# Altium schematic symbol library Actuator_Base_Board.SchLib: 16 symbols
Pins are listed as number, name and electrical type; pins without a type are passive.

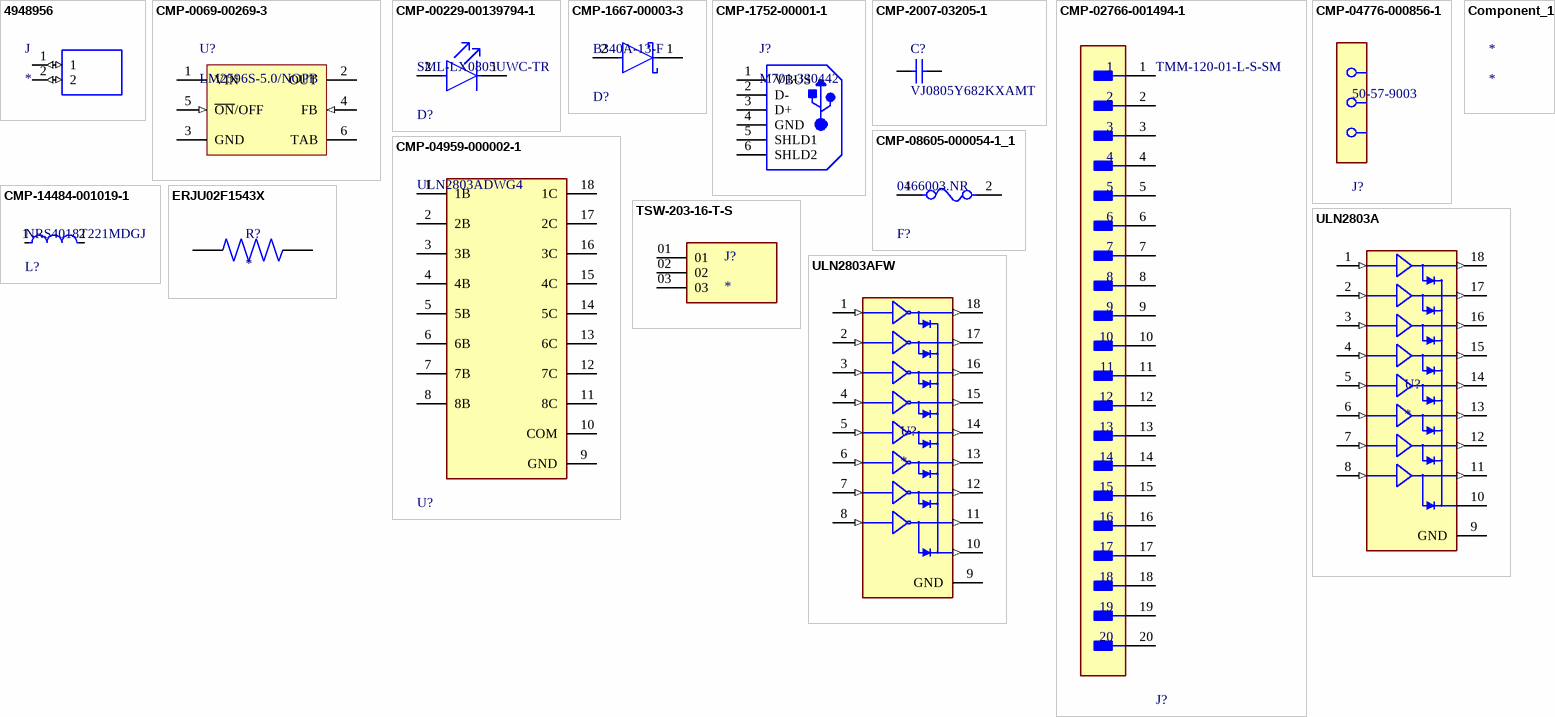
[diagram p0: symbols 4948956 to ULN2803AFW]

## 4948956
designator J
5.08mm Pitch Straight PCB Terminal Block with Screw Term.; Through Hole; 2 Way; MP: 4948956; MF: RS Pro; Value: *; Package: None; SnapEDA_Link: https://www.snapeda.com/parts/4948956/RS%20Pro/view-part/1278850/?ref=snap; Price: None; Availability: Unavailable
footprint SHDR2W100P0X500_1X2_1000X750X1
pins: 1 (io), 2 (io)

## CMP-0069-00269-3
designator U?, comment LM2596S-5.0/NOPB
SIMPLE SWITCHER® Power Converter 150 KHz 3A Step-Down Voltage Regulator, 5-pin TO-263, Pb-Free; Manufacturer: Texas Instruments; PowerWise: N; PackageTopMarking: NSUZXYTTE#*LM2596S*-5.0 P+; ComponentLink1URL: http://www.ti.com/general/docs/lit/getliterature.tsp?genericPartNumber=LM2596&fileType=pdf; PackageDescription: TO-263, Molded, .400 x .390 x .180in, 5 Lead, .067in Pitch, Surface Mount; RoHS: Y; PinCount: 5; Code_JEDEC: MO-169-AB; ComponentLink1Description: Datasheet URL; PackageReference: KTT0005B; CompType: Switcher
footprint KTT0005B_N (DPAK, 5-Leads, Body 10.65x9.65mm, Pitch 1.7mm, IPC Medium Density)
footprint KTT0005B_M (DPAK, 5-Leads, Body 10.65x9.65mm, Pitch 1.7mm, IPC Low Density)
footprint KTT0005B_L (DPAK, 5-Leads, Body 10.65x9.65mm, Pitch 1.7mm, IPC High Density)
pins: 1 VIN (power), 2 OUT (power), 3 GND (power), 4 FB (in), 5 ~{ON}/OFF (in), 6 TAB (power)

## CMP-00229-00139794-1
designator D?, comment SML-LX0805UWC-TR
SML-LX0805UWC-TR White LED, 0805 Diffused, Rectangle Lens SMD package | Lumex SML-LX0805UWC-TR; NexarPartId: 139794; Approvals: CSA, UL; Lens Color: Clear, Yellow; Luminous Intensity: 150mcd; Power Rating: 120mW; Forward Current: 20mA; Forward Voltage: 3.5V; Number of LEDs: 1; Viewing Angle: 120°; RoHS: Compliant; Case/Package: 0805; Illumination Color: White; Min Operating Temperature: -40°C; Mount: Surface Mount; Max Operating Temperature: 85°C
footprint FP-SML-LX0805UWC-TR-MFG
pins: 1 C, 2 A

## CMP-1667-00003-3
designator D?, comment B340A-13-F
DIODE SCHOTTKY 40V 3A SMA; Max Forward Surge Current (Ifsm): 80A; Forward Voltage: 500mV; Polarity: Standard; Max Reverse Current: 500uA; Capacitance: 250pF; Element Configuration: Single; Mount: Surface Mount; Output Current: 3A; Radiation Hardening: No; Width: 2.92mm; Current Rating: 3A; Termination: SMD/SMT; Voltage: 40V; Series: -; Max Operating Temperature: 125°C; Current: 3A; Max Repetitive Reverse Voltage (Vrrm): 40V; Min Operating Temperature: -55°C; REACH SVHC: No SVHC; Number of Pins: 2; Average Rectified Current: 3A; Contact Plating: Tin; RoHS Compliant: Yes; Max Reverse Voltage (DC): 40V; Packaging: Tape and Reel; Height: 2.3mm; Length: 4.6mm; Case/Package: SMA; Weight: 0.002258oz; Peak Non-Repetitive Surge Current: 80A; Package Quantity: 5000; Lead Free: Lead Free; Forward Current: 3A; Voltage Rating (DC): 40V
footprint FP-SMA-MFG
pins: 1 C, 2 A

## CMP-1752-00001-1
designator J?, comment M701-330442
Single USB 2.0, Receptacle Connecter, B Type, 4 Position Through Hole, -55 to 85 degC, RoHS, Tray; DatasheetVersion: Oct-15; PackageDescription: USB Connecter, 4 Position Through Hole, Length 12.04 mm, Height 16.25 mm, Tail Length 3.1 mm; PackageReference: M701-330442; ComponentLink1Description: Datasheet; ComponentLink1URL: https://cdn.harwin.com/pdfs/M701-330442.pdf
footprint HRWN-M701-330442_V (USB, 4-Leads, Body 12.04x10.6mm, Pitch 2.5mm)
pins: 1 VBUS, 2 D-, 3 D+, 4 GND, 5 SHLD1, 6 SHLD2

## CMP-2007-03205-1
designator C?, comment VJ0805Y682KXAMT
Manufacturer: Vitramon; Part Number: VJ0805Y682KXAMT
footprint CAPC2013X145X48NL20T23 (Chip Capacitor, 2-Leads, Body 2.00x1.25mm, IPC Medium Density)
footprint CAPC2013X145X48LL20T23 (Chip Capacitor, 2-Leads, Body 2.00x1.25mm, IPC High Density)
footprint CAPC2013X145X48ML20T23 (Chip Capacitor, 2-Leads, Body 2.00x1.25mm, IPC Low Density)
pins: 1, 2
1 alternate drawing of the same symbol

## CMP-02766-001494-1
designator J?, comment TMM-120-01-L-S-SM
2MM TERMINAL STRIP; Connector Type: Header; Gender: Male; Number of Positions: 20; Contact Type: Male Pin; Min Operating Temperature: -55°C; Max Operating Temperature: 125°C; Flammability Rating: UL94 V-0; REACH SVHC: No SVHC; Lead Free: Lead Free; Fastening Type: Pull; Mount: Surface Mount; Contact Plating: Gold; Contact Finish - Mating: GOLD; Insulation Material: Polymer; Number of Contacts: 20; Insulation Color: Black; Contact Shape: Square; Termination: Solder; Number of Rows: 1; Series: TMM; Packaging: Rail/Tube; Contact Material: Bronze
footprint FP-TMM-120-01-L-S-SM-MFG
pins: 1, 2, 3, 4, 5, 6, 7, 8, 9, 10, 11, 12, 13, 14, 15, 16, 17, 18, 19, 20

## CMP-04776-000856-1
designator J?, comment 50-57-9003
CONN RCPT HSG 3POS 2.54MM; Glow Wire Compliant: Non-compliant; Number of Contacts: 3; Gender: Female; Body Material: PBT; Connector Type: Receptacle; Approvals: UL; Voltage Rating: 250V; Current Rating: 3A; Mount: Free Hanging; Min Operating Temperature: -40°C; Lead Free: Lead Free; Packaging: Bulk; Flammability Rating: UL94 V-0; Number of Rows: 1; Pitch: 2.54mm; Number of Positions: 3; Color: Black; Contact Type: Female Socket; Max Operating Temperature: 105°C; Contact Plating: Tin; RoHS Compliant: Yes; Contact Gender: Female; Housing Material: Polyester; Package Quantity: 500; Termination: Crimp; Housing Color: Black; Width: 2.51mm; Depth: 15.24mm; Material: Polyester; Series: C-Grid® SL™ 70066; Length: 7.62mm; Orientation: Straight
footprint FP-50-57-9003-MFG

## CMP-04959-000002-1
designator U?, comment ULN2803ADWG4
TRANS 8NPN DARL 50V 0.5A 18SO; Max Collector Current: 500mA; Number of Drivers: 8; Collector Emitter Saturation Voltage: 1.1V; Polarity: NPN; Width: 7.52mm; Radiation Hardening: No; Mount: Surface Mount; Collector-emitter Voltage-Max: 50V; Weight: 0.007408oz; RoHS Compliant: Yes; Number of Pins: 18; Height: 2.35mm; Length: 11.62mm; Series: ULN2803A; Collector Emitter Breakdown Voltage: 50V; Max Operating Temperature: 85°C; Min Operating Temperature: -40°C; Emitter Base Voltage (VEBO): 50V; Lead Free: Lead Free; Packaging: Rail/Tube; Collector Emitter Voltage (VCEO): 50V; Number of Elements: 8; Case/Package: SOIC; Package Quantity: 40
footprint FP-DW0018A-IPC_B
footprint FP-DW0018A-IPC_C
footprint FP-DW0018A-MFG
footprint FP-DW0018A-IPC_A
pins: 1 1B, 2 2B, 3 3B, 4 4B, 5 5B, 6 6B, 7 7B, 8 8B, 9 GND (power), 10 COM, 11 8C, 12 7C, 13 6C, 14 5C, 15 4C, 16 3C, 17 2C, 18 1C

## CMP-08605-000054-1_1
designator F?, comment 0466003.NR
FUSE BOARD MNT 3A 32VAC/VDC 1206; Manufacturer: Littelfuse; Fuse Interrupt Ac Current: 50A; Fuse Voltage Drop: 75.99mV; Max Fuse Ac Voltage: 32V; Fuse I2T: 0.576A2Sec; Resistance: 0.019Ω; Fuse Blow Speed: Fast; Value: 0.019Ω; ComponentLink2Description: Datasheet; Fuse Current: 3A; RoHS: TRUE; Mouser Description: Surface Mount Fuses 32V 3A VFA Slimline; Height: 0.66mm; Octopart: https://octopart.com/0466003.nr-littelfuse-565175; Package: 0466; Fuse Interrupt Dc Current: 50A; Manufacturer Part Number: 0466003.NR; Temperature Range Low: -55°C; ComponentLink2URL: https://www.littelfuse.com/~/media/electronics/datasheets/fuses/littelfuse_fuse_466_datasheet.pdf.pdf; Digikey Description: FUSE BOARD MNT 3A 32VAC/VDC 1206; Voltage Rating: 32V; Category: Fuse; Lead Free: Yes; Device Class L2: Fuses; Automotive: No; Max Fuse Dc Voltage: 32V; Temperature Range High: +90°C; Device Class L3: unset; Device Class L1: Circuit Protection; Temperature: -55°C to +90°C
footprint FP-0466-MFG
pins: 1, 2

## CMP-14484-001019-1
designator L?, comment NRS4018T221MDGJ
SMD Power Inductors 220uH ±20% 0.17A 4.56Ω; Shielding: Shielded; DC Resistance (DCR): 4.56R; Current Rating: 170mA; Core Material: Ferrite; Saturation Current: 275mA; Self Resonant Frequency: 4MHz; Test Frequency: 100kHz; Width: 0.157inch; Mount: Surface Mount; Max Operating Temperature: 125°C; Length: 0.157inch; RoHS Compliant: Yes; Min Operating Temperature: -25°C; Case/Package: Nonstandard; Resistor Type: Wirewound; Height - Seated (Max): 0.071inch; Tolerance: 20%; Inductance: 220uH; Packaging: Tape and Reel
footprint FP-NR4018-MFG
pins: 1, 2

## Component_1
designator *

## ERJU02F1543X
designator R?
MP: ERJU02F1543X; Value: *; Availability: Unavailable; Price: None; Package: None
footprint RES_ERJU02F1543X
pins: 1, 2

## TSW-203-16-T-S
designator J?
MP: TSW-203-16-T-S; Package: None; Price: None; Value: *; Availability: Unavailable
footprint SAMTEC_TSW-203-16-T-S
pins: 01, 02, 03

## ULN2803A
designator U?
MP: ULN2803A; Package: None; Price: None; Value: *; Availability: Unavailable
footprint DIP850W46P254L2324H393Q18
pins: 1 IN_1 (in), 2 IN_2 (in), 3 IN_3 (in), 4 IN_4 (in), 5 IN_5 (in), 6 IN_6 (in), 7 IN_7 (in), 8 IN_8 (in), 9 GND (power), 10 COMMON, 11 OUT_8 (out), 12 OUT_7 (out), 13 OUT_6 (out), 14 OUT_5 (out), 15 OUT_4 (out), 16 OUT_3 (out), 17 OUT_2 (out), 18 OUT_1 (out)

## ULN2803AFW
designator U?
Bipolar (BJT) Transistor Array 8 NPN Darlington 50V 500mA - 1.31W Surface Mount 18-SOP; MF: Toshiba; MP: ULN2803AFW; SnapEDA_Link: https://www.snapeda.com/parts/ULN2803AFW/Toshiba/view-part/?ref=snap; Package: SO-18 Toshiba; Value: *; Check_prices: https://www.snapeda.com/parts/ULN2803AFW/Toshiba/view-part/?ref=eda
footprint SOIC127P1030X265-18N
pins: 1 I1 (in), 2 I2 (in), 3 I3 (in), 4 I4 (in), 5 I5 (in), 6 I6 (in), 7 I7 (in), 8 I8 (in), 9 GND (power), 10 COMMON (out), 11 O8 (out), 12 O7 (out), 13 O6 (out), 14 O5 (out), 15 O4 (out), 16 O3 (out), 17 O2 (out), 18 O1 (out)